# EAGLE library part TYPE-C-31-M-12 (library TYPE-C-31-M-12)
USB Connectors 24 Receptacle 1 8.94*7.3mm RoHS
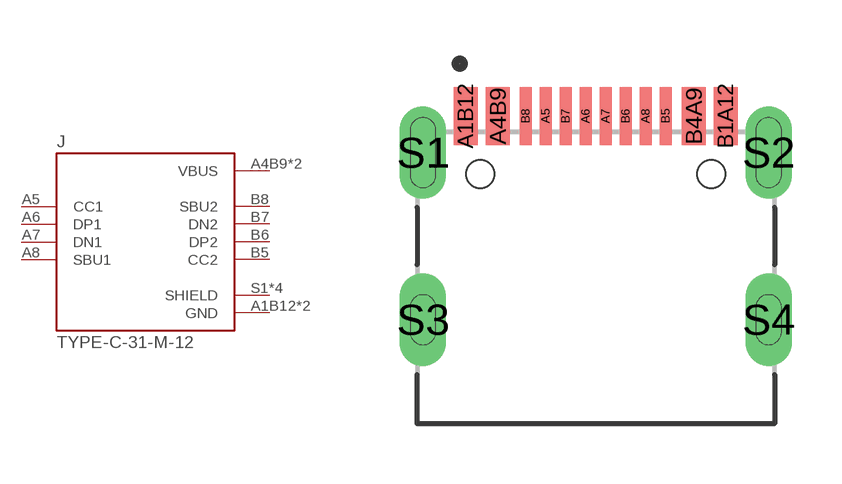
[diagram p0: symbol with the pads of HRO_TYPE-C-31-M-12; footprint HRO_TYPE-C-31-M-12]

Designator prefix J

## TYPE-C-31-M-12 (Availability: Unavailable; Description: USB Connectors 24 Receptacle 1 8.94*7.3mm RoHS; MF: HRO Electronics Co., Ltd.; MP: TYPE-C-31-M-12; Package: Package; Price: None)  [HRO_TYPE-C-31-M-12]
A1B12  GND  pwr
A4B9  VBUS  pwr
A5  CC1
A6  DP1
A7  DN1
A8  SBU1
B1A12  GND  pwr
B4A9  VBUS  pwr
B5  CC2
B6  DP2
B7  DN2
B8  SBU2
S1  SHIELD  pas
S2  SHIELD  pas
S3  SHIELD  pas
S4  SHIELD  pas

## Footprint HRO_TYPE-C-31-M-12 (pad centres in mm)
smd 0.6 x 1.45: A1B12 -3.25,5.095; A4B9 -2.45,5.095; B1A12 3.25,5.095; B4A9 2.45,5.095
smd 0.3 x 1.45: A5 -1.25,5.095; A6 -0.25,5.095; A7 0.25,5.095; A8 1.25,5.095; B5 1.75,5.095; B6 0.75,5.095; B7 -0.75,5.095; B8 -1.75,5.095
drill 0.65 pad 1.05 long: S1 -4.32,4.18; S2 4.32,4.18; S3 -4.32,0; S4 4.32,0
hole 0.7 at -2.89,3.65
hole 0.7 at 2.89,3.65